# Altium footprint library MCABT408RC.PcbLib: 1 footprints
Each footprint in its own frame and in the unit in brackets; x right, y up, seen from the top. Pads: shape width x height; smd on the part's side, far side on the other; paste and mask are expansions set on the pad; w line width, h text height; cw(c..) or ccw(c..) is an arc to the next point about the centre after c.
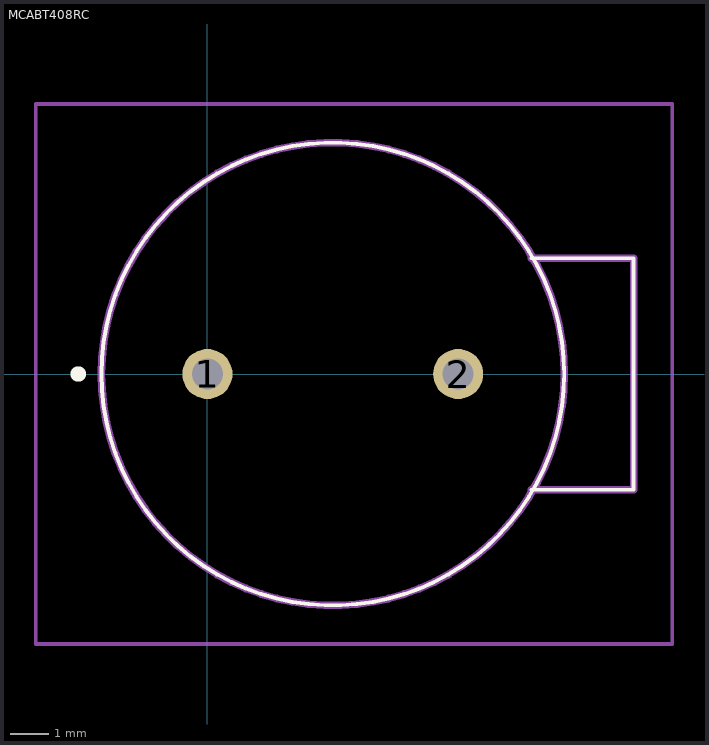
[diagram p0: the footprint, top view; thin cyan lines are the x and y axes]

## MCABT408RC [mm]
pads (2):
  round 1.3 hole 0.8: 1(0,0) 2(6.5,0)
L26-Silk Screen Top (Multiple PADS layers...):
  lines w0.1: 8.4,-3 11.05,-3 11.05,3 10.87,3 8.4,3 ; -2.75,0 -2.75,0 ; -2.75,0 cw(c3.25,0) 9.25,0 ; -2.75,0 ccw(c3.25,0) 9.25,0 ; 9.25,0 9.25,0
  lines w0.2: -3.35,-0.1 ccw(c-3.35,0) -3.35,0.1 ; -3.35,-0.1 -3.35,-0.1 ; -3.35,-0.1 cw(c-3.35,0) -3.35,0.1 ; -3.35,0.1 -3.35,0.1
L15 (Multiple PADS layers...):
  lines w0.2: 8.4,-3 11.05,-3 11.05,3 8.4,3 ; -2.75,0 -2.75,0 ; -2.75,0 cw(c3.25,0) 9.25,0 ; -2.75,0 ccw(c3.25,0) 9.25,0 ; 9.25,0 9.25,0
L20:
  lines w0.1: -4.45,-7 12.05,-7 12.05,7 -4.45,7 -4.45,-7